# Altium integrated library logic.IntLib: 67 symbols
Pins are listed as number, name and electrical type; pins without a type are passive.

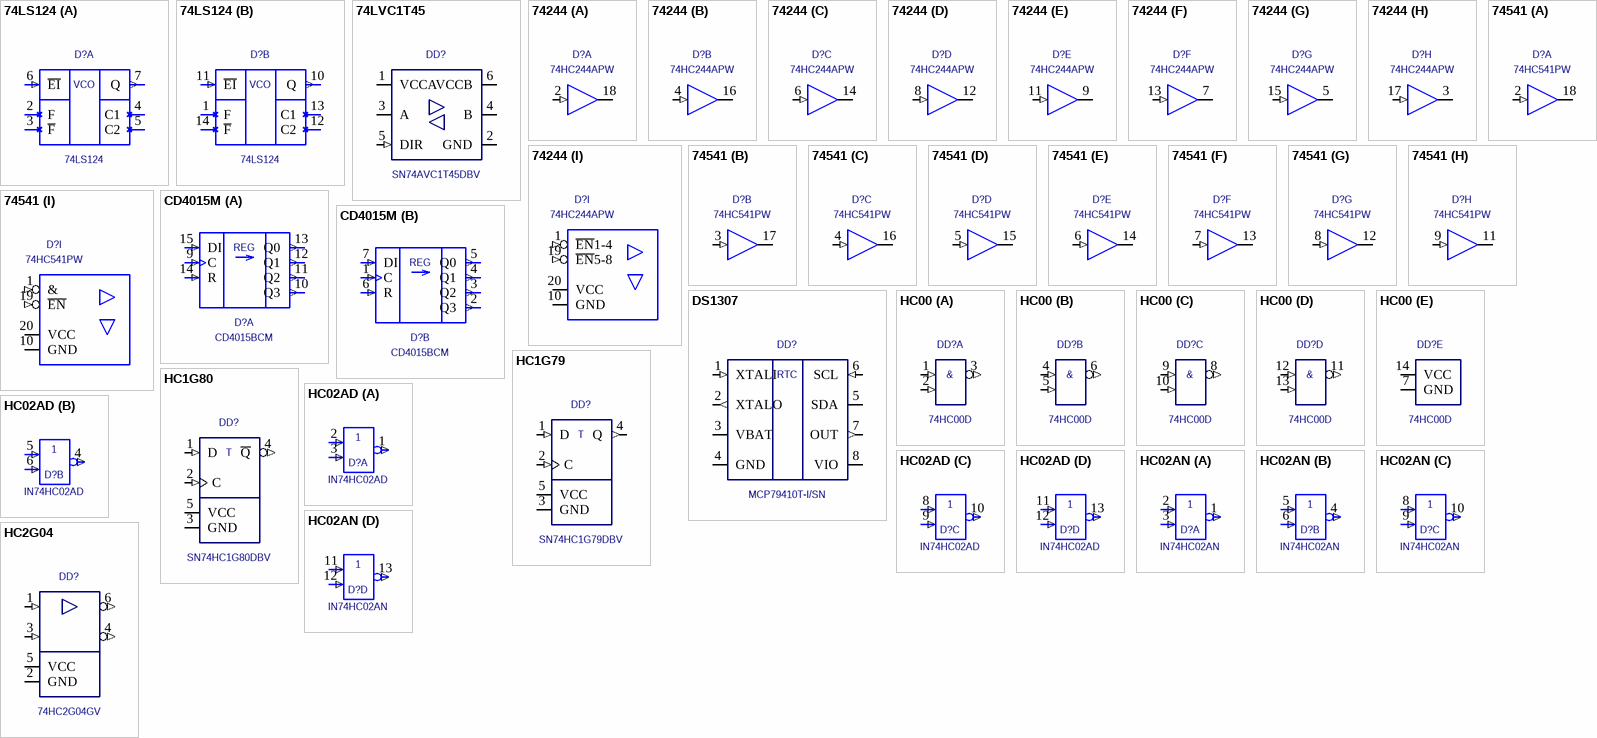
[diagram p0: symbols 74LS124 to HC2G04]

## 74LS124
designator D?
Value: 74LS124
footprint DIP16
pins on every part: 8 GND (power) hidden, 9 GND (power) hidden, 15 VCC (power) hidden, 16 VCC (power) hidden
part A pins: 2 F, 3 ~{F}, 4 C1, 5 C2, 6 ~{EI} (in), 7 Q (out)
part B pins: 1 F, 10 Q (out), 11 ~{EI} (in), 12 C2, 13 C1, 14 ~{F}
part A text: VCO
part B text: VCO

## 74LVC1T45
designator DD?, comment SN74AVC1T45DBV
1x Level shifter (bidir); Value: SN74AVC1T45DBV
footprint SOT-23-6
footprint SC-70-6
pins: 1 VCCA (power), 2 GND (power), 3 A (io), 4 B (io), 5 DIR (in) "1:A>B  0:A<B", 6 VCCB (power)

## 74244
designator D?, comment 74HC244APW
8 Z-buffers; Value: 74HC244APW
footprint DIP20
footprint SO20W
footprint TSSOP20
part A pins: 2 IN (in), 18 OUT (hiz)
part B pins: 4 IN (in), 16 OUT (hiz)
part C pins: 6 IN (in), 14 OUT (hiz)
part D pins: 8 IN (in), 12 OUT (hiz)
part E pins: 9 OUT (hiz), 11 IN (in)
part F pins: 7 OUT (hiz), 13 IN (in)
part G pins: 5 OUT (hiz), 15 IN (in)
part H pins: 3 OUT (hiz), 17 IN (in)
part I pins: 1 ~{EN}1-4 (in), 10 GND (power), 19 ~{EN}5-8 (in), 20 VCC (power)

## 74541
designator D?, comment 74HC541PW
8 Z-buffers; Value: 74HC541PW
footprint DIP20
footprint SO20W
footprint TSSOP20
part A pins: 2 IN (in), 18 OUT (hiz)
part B pins: 3 IN (in), 17 OUT (hiz)
part C pins: 4 IN (in), 16 OUT (hiz)
part D pins: 5 IN (in), 15 OUT (hiz)
part E pins: 6 IN (in), 14 OUT (hiz)
part F pins: 7 IN (in), 13 OUT (hiz)
part G pins: 8 IN (in), 12 OUT (hiz)
part H pins: 9 IN (in), 11 OUT (hiz)
part I pins: 1 & (in), 10 GND (power), 19 ~{EN} (in), 20 VCC (power)

## CD4015M
designator D?  value CD4015BCM  (hidden comment: CD4015M)
footprint SO16
pins on every part: 8 GND (power) hidden, 16 VCC (power) hidden
part A pins: 9 C (in), 10 Q3 (out), 11 Q2 (out), 12 Q1 (out), 13 Q0 (out), 14 R (in), 15 DI (in)
part B pins: 1 C (in), 2 Q3 (out), 3 Q2 (out), 4 Q1 (out), 5 Q0 (out), 6 R (in), 7 DI (in)
part A text: REG
part B text: REG

## DS1307
designator DD?, comment MCP79410T-I/SN
RTC; Value: MCP79410T-I/SN
footprint SO8
footprint DIP8
footprint TSSOP8-4MM (0.65mm pitch)
pins: 1 XTALI (in), 2 XTALO (out), 3 VBAT (power), 4 GND (power), 5 SDA (io), 6 SCL (in), 7 OUT (out), 8 VIO (power)

## HC00
designator DD?, comment 74HC00D
4xNAND; Value: 74HC00D
footprint SO14
footprint TSSOP14
footprint DIP14
part A pins: 1 INA (in), 2 INB (in), 3 OUTY (out)
part B pins: 4 INA (in), 5 INB (in), 6 OUTY (out)
part C pins: 8 OUTY (out), 9 INA (in), 10 INB (in)
part D pins: 11 OUTY (out), 12 INA (in), 13 INB (in)
part E pins: 7 GND (power), 14 VCC (power)
part A text: &
part B text: &
part C text: &
part D text: &

## HC1G79
designator DD?, comment SN74HC1G79DBV
1x DFF; Value: SN74HC1G79DBV
footprint SC-70-5 (0.65mm pitch)
footprint SOT-23-5 (0.95mm pitch)
pins: 1 D (in), 2 C (in), 3 GND (power), 4 Q (out), 5 VCC (power)
text: T

## HC1G80
designator DD?, comment SN74HC1G80DBV
1x DFF; Value: SN74HC1G80DBV
footprint SC-70-5 (0.65mm pitch)
footprint SOT-23-5 (0.95mm pitch)
pins: 1 D (in), 2 C (in), 3 GND (power), 4 ~{Q} (out), 5 VCC (power)
text: T

## HC02AD
designator D?  value IN74HC02AD  (hidden comment: HC02AD)
footprint SO14
pins on every part: 7 GND (power) hidden, 14 VCC (power) hidden
part A pins: 1 OUTY (out), 2 INA (in), 3 INB (in)
part B pins: 4 OUTY (out), 5 INA (in), 6 INB (in)
part C pins: 8 INA (in), 9 INB (in), 10 OUTY (out)
part D pins: 11 INA (in), 12 INB (in), 13 OUTY (out)

## HC02AN
designator D?  value IN74HC02AN  (hidden comment: HC02AN)
footprint DIP14
pins on every part: 7 GND (power) hidden, 14 VCC (power) hidden
part A pins: 1 OUTY (out), 2 INA (in), 3 INB (in)
part B pins: 4 OUTY (out), 5 INA (in), 6 INB (in)
part C pins: 8 INA (in), 9 INB (in), 10 OUTY (out)
part D pins: 11 INA (in), 12 INB (in), 13 OUTY (out)

## HC2G04
designator DD?, comment 74HC2G04GV
2x invertor; Value: 74HC2G04GV
footprint SOT-23-6 (0.95mm pitch)
footprint SC-70-6 (0.65mm pitch)
pins: 1 D1 (in), 2 GND (power), 3 D2 (in), 4 Q2 (out), 5 VCC (power), 6 Q1 (out)

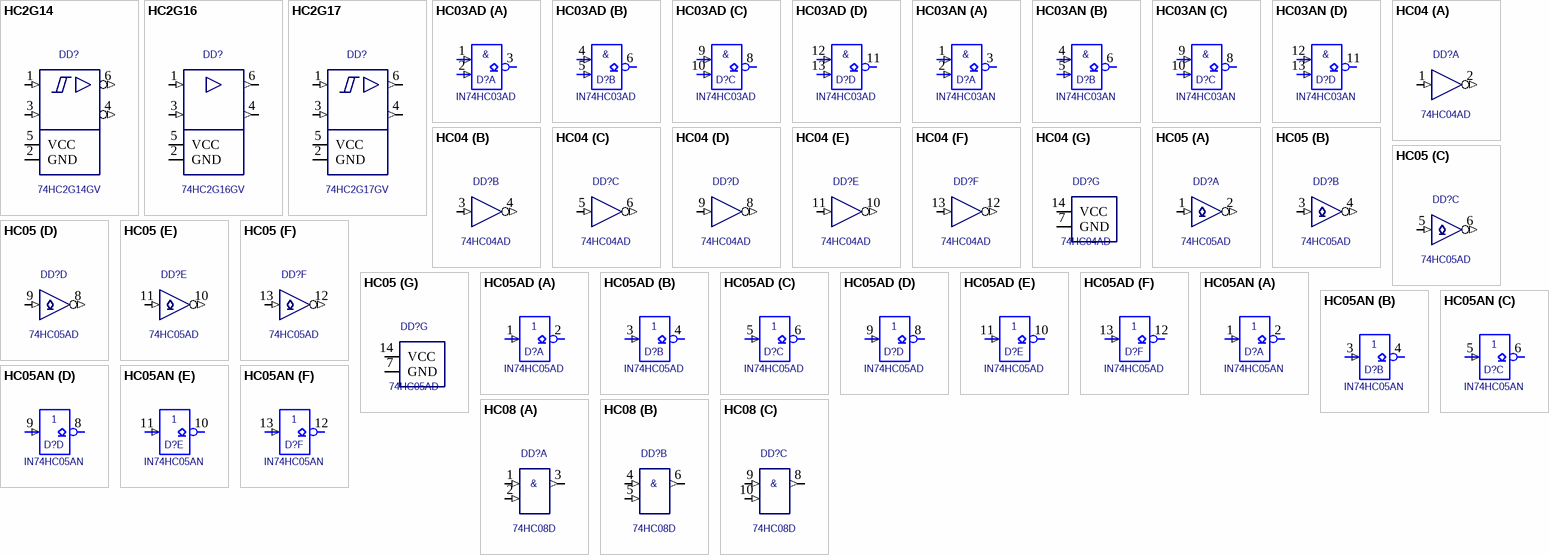
[diagram p1: symbols HC2G14 to HC08]

## HC2G14
designator DD?, comment 74HC2G14GV
2x Shmitt invertor; Value: 74HC2G14GV
footprint SOT-23-6 (0.95mm pitch)
footprint SC-70-6 (0.65mm pitch)
pins: 1 D1 (in), 2 GND (power), 3 D2 (in), 4 Q2 (out), 5 VCC (power), 6 Q1 (out)

## HC2G16
designator DD?, comment 74HC2G16GV
2x buffer; Value: 74HC2G16GV
footprint SOT-23-6 (0.95mm pitch)
footprint SC-70-6 (0.65mm pitch)
pins: 1 D1 (in), 2 GND (power), 3 D2 (in), 4 Q2 (out), 5 VCC (power), 6 Q1 (out)

## HC2G17
designator DD?, comment 74HC2G17GV
2x Shmitt buffer; Value: 74HC2G17GV
footprint SOT-23-6 (0.95mm pitch)
footprint SC-70-6 (0.65mm pitch)
pins: 1 D1 (in), 2 GND (power), 3 D2 (in), 4 Q2 (out), 5 VCC (power), 6 Q1 (out)

## HC03AD
designator D?  value IN74HC03AD  (hidden comment: HC03AD)
footprint SO14
pins on every part: 7 GND (power) hidden, 14 VCC (power) hidden
part A pins: 1 INA (in), 2 INB (in), 3 OUTY (oe)
part B pins: 4 INA (in), 5 INB (in), 6 OUTY (oe)
part C pins: 8 OUTY (oe), 9 INA (in), 10 INB (in)
part D pins: 11 OUTY (oe), 12 INA (in), 13 INB (in)
part A text: &
part B text: &
part C text: &
part D text: &

## HC03AN
designator D?  value IN74HC03AN  (hidden comment: HC03AN)
footprint DIP14
pins on every part: 7 GND (power) hidden, 14 VCC (power) hidden
part A pins: 1 INA (in), 2 INB (in), 3 OUTY (oe)
part B pins: 4 INA (in), 5 INB (in), 6 OUTY (oe)
part C pins: 8 OUTY (oe), 9 INA (in), 10 INB (in)
part D pins: 11 OUTY (oe), 12 INA (in), 13 INB (in)
part A text: &
part B text: &
part C text: &
part D text: &

## HC04
designator DD?, comment 74HC04AD
6xInvertor; Value: 74HC04AD
footprint SO14
footprint TSSOP14
footprint DIP14
part A pins: 1 IN (in), 2 OUT (out)
part B pins: 3 IN (in), 4 OUT (out)
part C pins: 5 IN (in), 6 OUT (out)
part D pins: 8 OUT (out), 9 IN (in)
part E pins: 10 OUT (out), 11 IN (in)
part F pins: 12 OUT (out), 13 IN (in)
part G pins: 7 GND (power), 14 VCC (power)

## HC05
designator DD?, comment 74HC05AD
6xInvertor OD; Value: 74HC05AD
footprint SO14
footprint TSSOP14
footprint DIP14
part A pins: 1 IN (in), 2 OUT (out)
part B pins: 3 IN (in), 4 OUT (out)
part C pins: 5 IN (in), 6 OUT (out)
part D pins: 8 OUT (out), 9 IN (in)
part E pins: 10 OUT (out), 11 IN (in)
part F pins: 12 OUT (out), 13 IN (in)
part G pins: 7 GND (power), 14 VCC (power)

## HC05AD
designator D?  value IN74HC05AD  (hidden comment: HC05AD)
footprint SO14
pins on every part: 7 GND (power) hidden, 14 VCC (power) hidden
part A pins: 1 IN (in), 2 OUT (oe)
part B pins: 3 IN (in), 4 OUT (oe)
part C pins: 5 IN (in), 6 OUT (oe)
part D pins: 8 OUT (oe), 9 IN (in)
part E pins: 10 OUT (oe), 11 IN (in)
part F pins: 12 OUT (oe), 13 IN (in)

## HC05AN
designator D?  value IN74HC05AN  (hidden comment: HC05AN)
footprint DIP14
pins on every part: 7 GND (power) hidden, 14 VCC (power) hidden
part A pins: 1 IN (in), 2 OUT (oe)
part B pins: 3 IN (in), 4 OUT (oe)
part C pins: 5 IN (in), 6 OUT (oe)
part D pins: 8 OUT (oe), 9 IN (in)
part E pins: 10 OUT (oe), 11 IN (in)
part F pins: 12 OUT (oe), 13 IN (in)

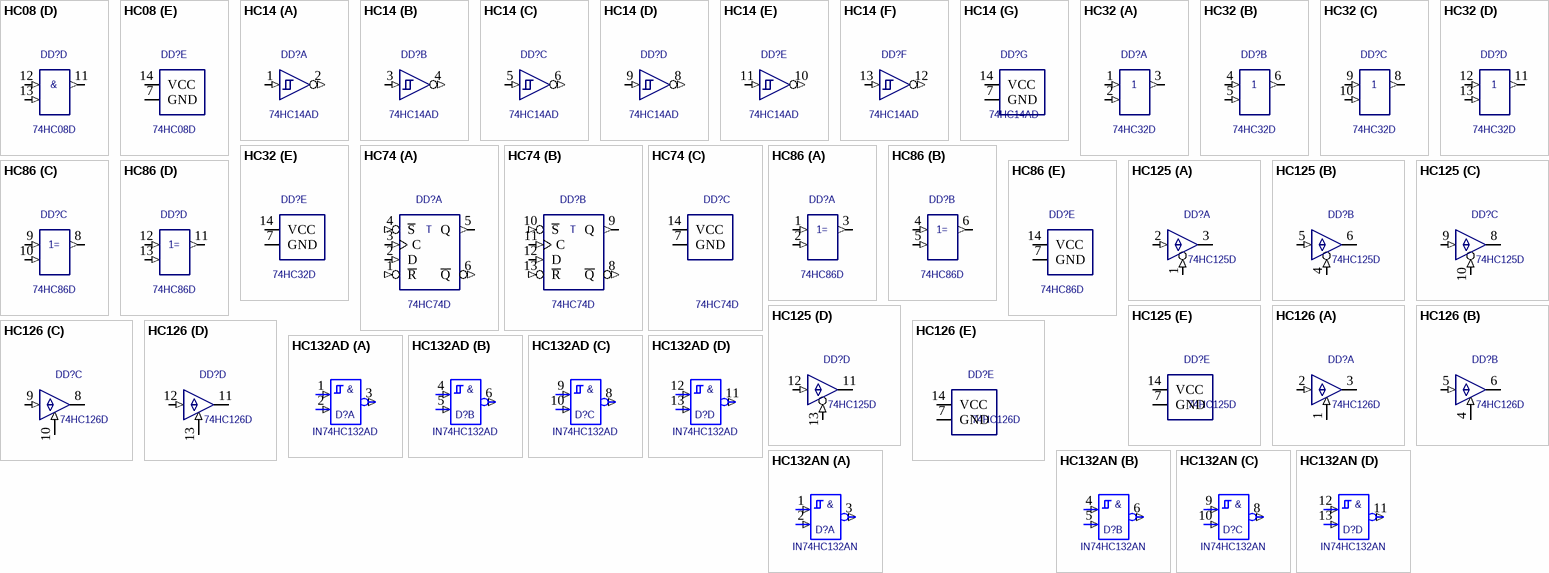
[diagram p2: symbols HC08 to HC132AN]

## HC08
designator DD?, comment 74HC08D
4xAND; Value: 74HC08D
footprint SO14
footprint TSSOP14
footprint DIP14
part A pins: 1 INA (in), 2 INB (in), 3 OUTY (out)
part B pins: 4 INA (in), 5 INB (in), 6 OUTY (out)
part C pins: 8 OUTY (out), 9 INA (in), 10 INB (in)
part D pins: 11 OUTY (out), 12 INA (in), 13 INB (in)
part E pins: 7 GND (power), 14 VCC (power)
part A text: &
part B text: &
part C text: &
part D text: &

## HC14
designator DD?, comment 74HC14AD
6x Shmitt Invertor; Value: 74HC14AD
footprint SO14
footprint TSSOP14
footprint DIP14
part A pins: 1 IN (in), 2 OUT (out)
part B pins: 3 IN (in), 4 OUT (out)
part C pins: 5 IN (in), 6 OUT (out)
part D pins: 8 OUT (out), 9 IN (in)
part E pins: 10 OUT (out), 11 IN (in)
part F pins: 12 OUT (out), 13 IN (in)
part G pins: 7 GND (power), 14 VCC (power)

## HC32
designator DD?, comment 74HC32D
4xOR; Value: 74HC32D
footprint SO14
footprint TSSOP14
footprint DIP14
part A pins: 1 INA (in), 2 INB (in), 3 OUTY (out)
part B pins: 4 INA (in), 5 INB (in), 6 OUTY (out)
part C pins: 8 OUTY (out), 9 INA (in), 10 INB (in)
part D pins: 11 OUTY (out), 12 INA (in), 13 INB (in)
part E pins: 7 GND (power), 14 VCC (power)

## HC74
designator DD?, comment 74HC74D
2xDFF; Value: 74HC74D
footprint SO14
footprint TSSOP14
footprint DIP14
part A pins: 1 ~{R} (in), 2 D (in), 3 C (in), 4 ~{S} (in), 5 Q (out), 6 ~{Q} (out)
part B pins: 8 ~{Q} (out), 9 Q (out), 10 ~{S} (in), 11 C (in), 12 D (in), 13 ~{R} (in)
part C pins: 7 GND (power), 14 VCC (power)
part A text: T
part B text: T

## HC86
designator DD?, comment 74HC86D
4xXOR; Value: 74HC86D
footprint SO14
footprint TSSOP14
footprint DIP14
part A pins: 1 INA (in), 2 INB (in), 3 OUTY (out)
part B pins: 4 INA (in), 5 INB (in), 6 OUTY (out)
part C pins: 8 OUTY (out), 9 INA (in), 10 INB (in)
part D pins: 11 OUTY (out), 12 INA (in), 13 INB (in)
part E pins: 7 GND (power), 14 VCC (power)
part A text: 1=
part B text: 1=
part C text: 1=
part D text: 1=

## HC125
designator DD?, comment 74HC125D
4xZ-Buffer; Value: 74HC125D
footprint SO14
footprint TSSOP14
footprint DIP14
part A pins: 1 OE (in), 2 IN (in), 3 OUT (hiz)
part B pins: 4 OE (in), 5 IN (in), 6 OUT (hiz)
part C pins: 8 OUT (hiz), 9 IN (in), 10 OE (in)
part D pins: 11 OUT (hiz), 12 IN (in), 13 OE (in)
part E pins: 7 GND (power), 14 VCC (power)

## HC126
designator DD?, comment 74HC126D
4xZ-Buffer; Value: 74HC126D
footprint SO14
footprint TSSOP14
footprint DIP14
part A pins: 1 OE (in), 2 IN (in), 3 OUT (hiz)
part B pins: 4 OE (in), 5 IN (in), 6 OUT (hiz)
part C pins: 8 OUT (hiz), 9 IN (in), 10 OE (in)
part D pins: 11 OUT (hiz), 12 IN (in), 13 OE (in)
part E pins: 7 GND (power), 14 VCC (power)

## HC132AD
designator D?  value IN74HC132AD  (hidden comment: HC132AD)
footprint SO14
pins on every part: 7 GND (power) hidden, 14 VCC (power) hidden
part A pins: 1 INA (in), 2 INB (in), 3 OUTY (out)
part B pins: 4 INA (in), 5 INB (in), 6 OUTY (out)
part C pins: 8 OUTY (out), 9 INA (in), 10 INB (in)
part D pins: 11 OUTY (out), 12 INA (in), 13 INB (in)
part A text: &
part B text: &
part C text: &
part D text: &

## HC132AN
designator D?  value IN74HC132AN  (hidden comment: HC132AN)
footprint DIP14
pins on every part: 7 GND (power) hidden, 14 VCC (power) hidden
part A pins: 1 INA (in), 2 INB (in), 3 OUTY (out)
part B pins: 4 INA (in), 5 INB (in), 6 OUTY (out)
part C pins: 8 OUTY (out), 9 INA (in), 10 INB (in)
part D pins: 11 OUTY (out), 12 INA (in), 13 INB (in)
part A text: &
part B text: &
part C text: &
part D text: &

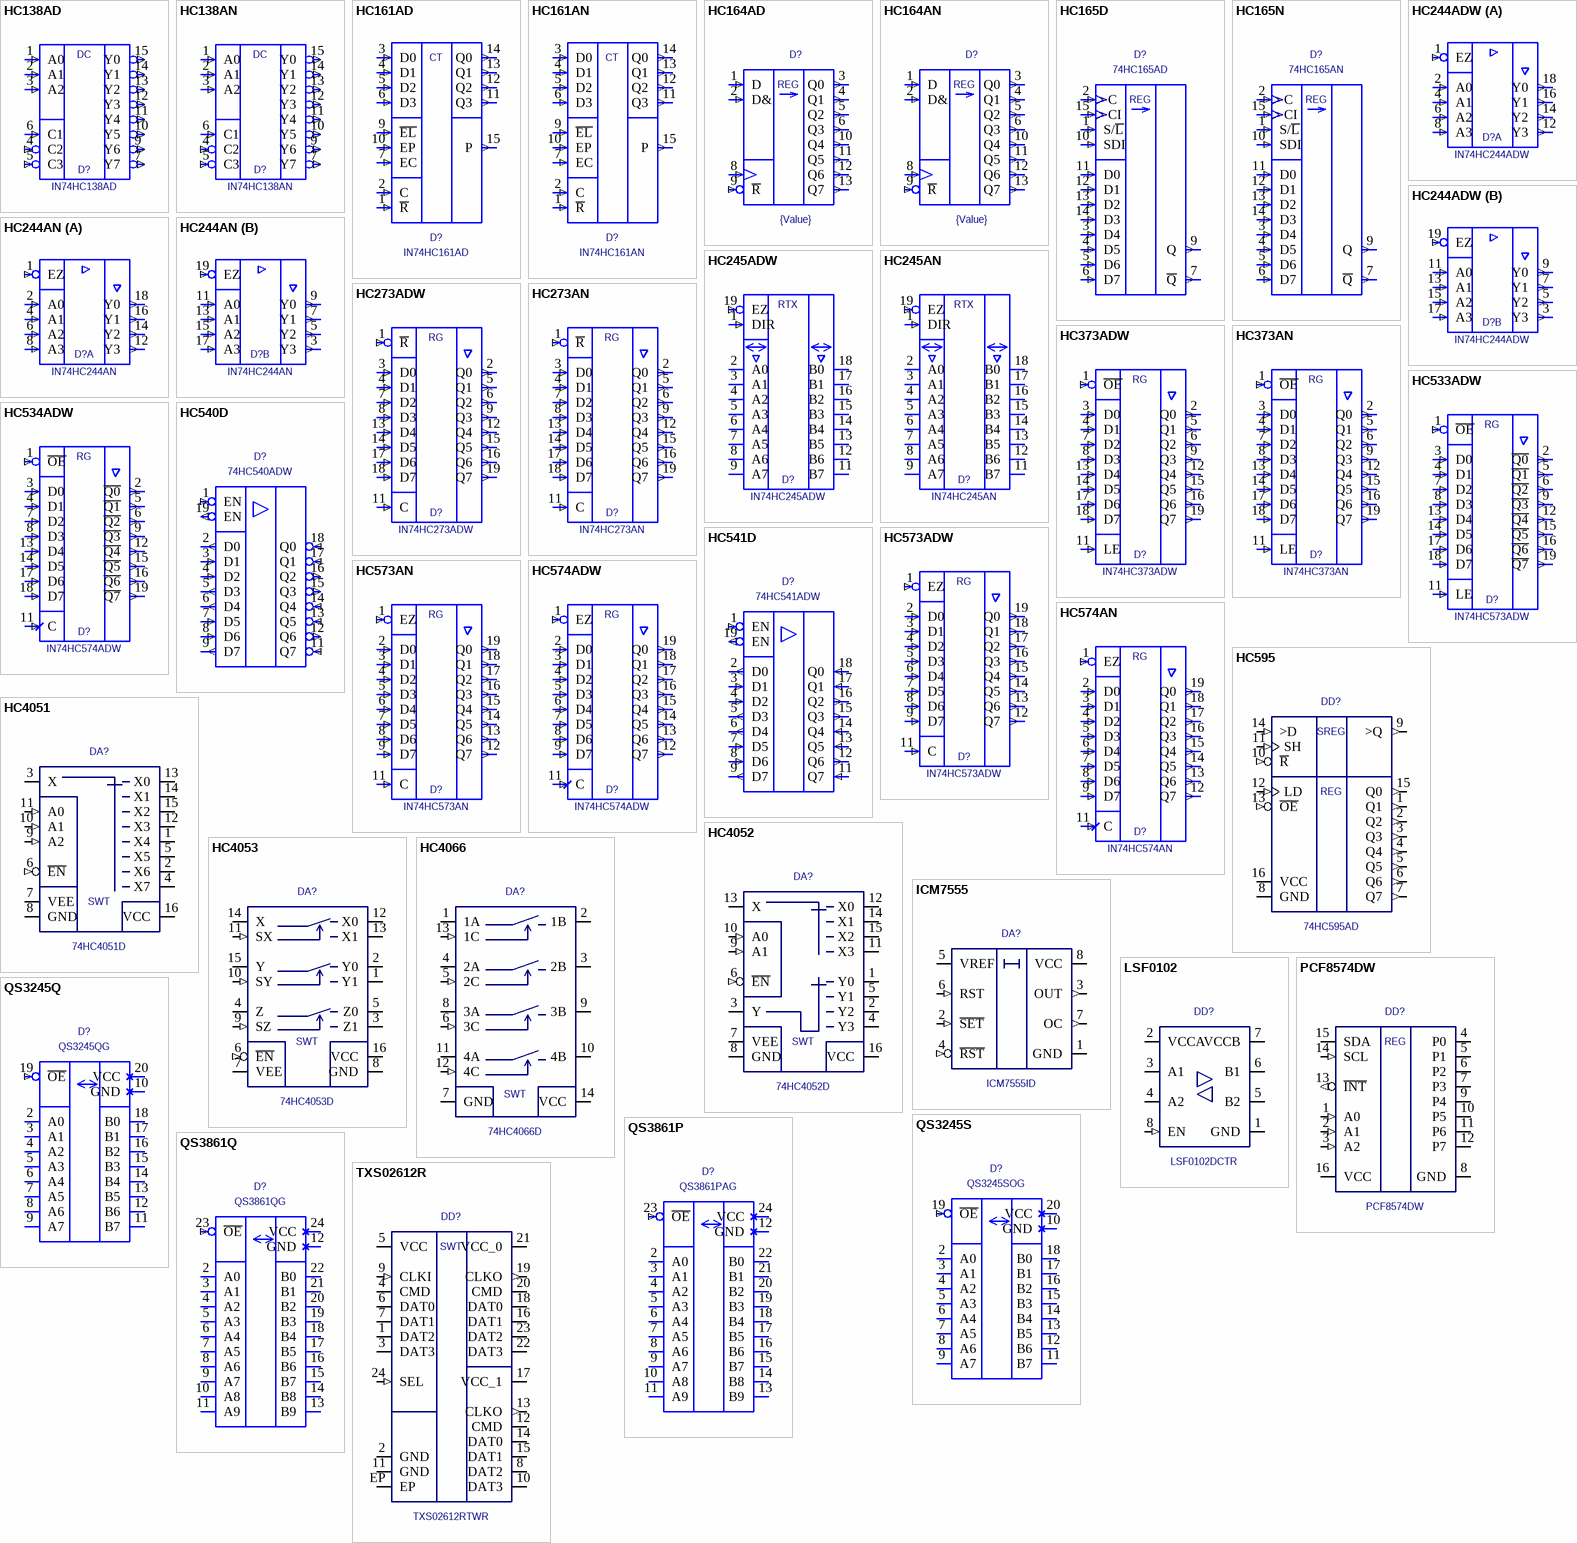
[diagram p3: symbols HC138AD to TXS02612R]

## HC138AD
designator D?  value IN74HC138AD  (hidden comment: HC138AD)
footprint SO16
pins: 1 A0 (in), 2 A1 (in), 3 A2 (in), 4 C2 (in), 5 C3 (in), 6 C1 (in), 7 Y7 (out), 8 GND (power) hidden, 9 Y6 (out), 10 Y5 (out), 11 Y4 (out), 12 Y3 (out), 13 Y2 (out), 14 Y1 (out), 15 Y0 (out), 16 VCC (power) hidden
text: DC

## HC138AN
designator D?  value IN74HC138AN  (hidden comment: HC138AN)
footprint DIP16
pins: 1 A0 (in), 2 A1 (in), 3 A2 (in), 4 C2 (in), 5 C3 (in), 6 C1 (in), 7 Y7 (out), 8 GND (power) hidden, 9 Y6 (out), 10 Y5 (out), 11 Y4 (out), 12 Y3 (out), 13 Y2 (out), 14 Y1 (out), 15 Y0 (out), 16 VCC (power) hidden
text: DC

## HC161AD
designator D?  value IN74HC161AD  (hidden comment: *)
HC161AD
footprint SO16
pins: 1 ~{R} (in), 2 C (in), 3 D0 (in), 4 D1 (in), 5 D2 (in), 6 D3 (in), 7 EC (in), 8 GND (power) hidden, 9 ~{EL} (in), 10 EP (in), 11 Q3 (out), 12 Q2 (out), 13 Q1 (out), 14 Q0 (out), 15 P (out), 16 VCC (power) hidden
text: CT

## HC161AN
designator D?  value IN74HC161AN  (hidden comment: *)
HC161AN
footprint DIP16
pins: 1 ~{R} (in), 2 C (in), 3 D0 (in), 4 D1 (in), 5 D2 (in), 6 D3 (in), 7 EC (in), 8 GND (power) hidden, 9 ~{EL} (in), 10 EP (in), 11 Q3 (out), 12 Q2 (out), 13 Q1 (out), 14 Q0 (out), 15 P (out), 16 VCC (power) hidden
text: CT

## HC164AD
designator D?  value {Value}  (hidden comment: HC164AD)
footprint SO14
pins: 1 D (in), 2 D& (in), 3 Q0 (out), 4 Q1 (out), 5 Q2 (out), 6 Q3 (out), 7 GND (power) hidden, 8 CLK (in), 9 ~{R} (in), 10 Q4 (out), 11 Q5 (out), 12 Q6 (out), 13 Q7 (out), 14 VCC (power) hidden
text: REG

## HC164AN
designator D?  value {Value}  (hidden comment: HC164AN)
footprint DIP14
pins: 1 D (in), 2 D& (in), 3 Q0 (out), 4 Q1 (out), 5 Q2 (out), 6 Q3 (out), 7 GND (power) hidden, 8 CLK (in), 9 ~{R} (in), 10 Q4 (out), 11 Q5 (out), 12 Q6 (out), 13 Q7 (out), 14 VCC (power) hidden
text: REG

## HC165D
designator D?  value 74HC165AD  (hidden comment: HC165D)
footprint SO16
pins: 1 S/~{L} (in), 2 C (in), 3 D4 (in), 4 D5 (in), 5 D6 (in), 6 D7 (in), 7 ~{Q} (out), 8 GND (power) hidden, 9 Q (out), 10 SDI (in), 11 D0 (in), 12 D1 (in), 13 D2 (in), 14 D3 (in), 15 CI (in), 16 VCC (power) hidden
text: REG

## HC165N
designator D?  value 74HC165AN  (hidden comment: HC165N)
footprint DIP16
pins: 1 S/~{L} (in), 2 C (in), 3 D4 (in), 4 D5 (in), 5 D6 (in), 6 D7 (in), 7 ~{Q} (out), 8 GND (power) hidden, 9 Q (out), 10 SDI (in), 11 D0 (in), 12 D1 (in), 13 D2 (in), 14 D3 (in), 15 CI (in), 16 VCC (power) hidden
text: REG

## HC244ADW
designator D?  value IN74HC244ADW  (hidden comment: HC244ADW)
footprint SO20W
pins on every part: 10 GND (power) hidden, 20 VCC (power) hidden
part A pins: 1 EZ (in), 2 A0 (in), 4 A1 (in), 6 A2 (in), 8 A3 (in), 12 Y3 (out), 14 Y2 (out), 16 Y1 (out), 18 Y0 (out)
part B pins: 3 Y3 (out), 5 Y2 (out), 7 Y1 (out), 9 Y0 (out), 11 A0 (in), 13 A1 (in), 15 A2 (in), 17 A3 (in), 19 EZ (in)

## HC244AN
designator D?  value IN74HC244AN  (hidden comment: HC244AN)
footprint DIP20
pins on every part: 10 GND (power) hidden, 20 VCC (power) hidden
part A pins: 1 EZ (in), 2 A0 (in), 4 A1 (in), 6 A2 (in), 8 A3 (in), 12 Y3 (out), 14 Y2 (out), 16 Y1 (out), 18 Y0 (out)
part B pins: 3 Y3 (out), 5 Y2 (out), 7 Y1 (out), 9 Y0 (out), 11 A0 (in), 13 A1 (in), 15 A2 (in), 17 A3 (in), 19 EZ (in)

## HC245ADW
designator D?  value IN74HC245ADW  (hidden comment: HC245ADW)
footprint SO20W
pins: 1 DIR (in), 2 A0 (io), 3 A1 (io), 4 A2 (io), 5 A3 (io), 6 A4 (io), 7 A5 (io), 8 A6 (io), 9 A7 (io), 10 GND (power) hidden, 11 B7 (io), 12 B6 (io), 13 B5 (io), 14 B4 (io), 15 B3 (io), 16 B2 (io), 17 B1 (io), 18 B0 (io), 19 EZ (in), 20 VCC (power) hidden
text: RTX

## HC245AN
designator D?  value IN74HC245AN  (hidden comment: HC245AN)
footprint DIP20
pins: 1 DIR (in), 2 A0 (io), 3 A1 (io), 4 A2 (io), 5 A3 (io), 6 A4 (io), 7 A5 (io), 8 A6 (io), 9 A7 (io), 10 GND (power) hidden, 11 B7 (io), 12 B6 (io), 13 B5 (io), 14 B4 (io), 15 B3 (io), 16 B2 (io), 17 B1 (io), 18 B0 (io), 19 EZ (in), 20 VCC (power) hidden
text: RTX

## HC273ADW
designator D?  value IN74HC273ADW  (hidden comment: HC273ADW)
footprint SO20W
pins: 1 ~{R} (in), 2 Q0 (out), 3 D0 (in), 4 D1 (in), 5 Q1 (out), 6 Q2 (out), 7 D2 (in), 8 D3 (in), 9 Q3 (out), 10 GND (power) hidden, 11 C (in), 12 Q4 (out), 13 D4 (in), 14 D5 (in), 15 Q5 (out), 16 Q6 (out), 17 D6 (in), 18 D7 (in), 19 Q7 (out), 20 VCC (power) hidden
text: RG

## HC273AN
designator D?  value IN74HC273AN  (hidden comment: HC273AN)
footprint DIP20
pins: 1 ~{R} (in), 2 Q0 (out), 3 D0 (in), 4 D1 (in), 5 Q1 (out), 6 Q2 (out), 7 D2 (in), 8 D3 (in), 9 Q3 (out), 10 GND (power) hidden, 11 C (in), 12 Q4 (out), 13 D4 (in), 14 D5 (in), 15 Q5 (out), 16 Q6 (out), 17 D6 (in), 18 D7 (in), 19 Q7 (out), 20 VCC (power) hidden
text: RG

## HC373ADW
designator D?  value IN74HC373ADW  (hidden comment: HC373ADW)
footprint SO20W
pins: 1 ~{OE} (in), 2 Q0 (out), 3 D0 (in), 4 D1 (in), 5 Q1 (out), 6 Q2 (out), 7 D2 (in), 8 D3 (in), 9 Q3 (out), 10 GND (power) hidden, 11 LE (in), 12 Q4 (out), 13 D4 (in), 14 D5 (in), 15 Q5 (out), 16 Q6 (out), 17 D6 (in), 18 D7 (in), 19 Q7 (out), 20 VCC (power) hidden
text: RG

## HC373AN
designator D?  value IN74HC373AN  (hidden comment: HC373AN)
footprint DIP20
pins: 1 ~{OE} (in), 2 Q0 (out), 3 D0 (in), 4 D1 (in), 5 Q1 (out), 6 Q2 (out), 7 D2 (in), 8 D3 (in), 9 Q3 (out), 10 GND (power) hidden, 11 LE (in), 12 Q4 (out), 13 D4 (in), 14 D5 (in), 15 Q5 (out), 16 Q6 (out), 17 D6 (in), 18 D7 (in), 19 Q7 (out), 20 VCC (power) hidden
text: RG

## HC533ADW
designator D?  value IN74HC573ADW  (hidden comment: HC533ADW)
footprint SO20W
pins: 1 ~{OE} (in), 2 ~{Q0} (out), 3 D0 (in), 4 D1 (in), 5 ~{Q1} (out), 6 ~{Q2} (out), 7 D2 (in), 8 D3 (in), 9 ~{Q3} (out), 10 GND (power) hidden, 11 LE (in), 12 ~{Q4} (out), 13 D4 (in), 14 D5 (in), 15 ~{Q5} (out), 16 ~{Q6} (out), 17 D6 (in), 18 D7 (in), 19 ~{Q7} (out), 20 VCC (power) hidden
text: RG

## HC534ADW
designator D?  value IN74HC574ADW  (hidden comment: HC534ADW)
footprint SO20W
pins: 1 ~{OE} (in), 2 ~{Q0} (out), 3 D0 (in), 4 D1 (in), 5 ~{Q1} (out), 6 ~{Q2} (out), 7 D2 (in), 8 D3 (in), 9 ~{Q3} (out), 10 GND (power) hidden, 11 C (in), 12 ~{Q4} (out), 13 D4 (in), 14 D5 (in), 15 ~{Q5} (out), 16 ~{Q6} (out), 17 D6 (in), 18 D7 (in), 19 ~{Q7} (out), 20 VCC (power) hidden
text: RG

## HC540D
designator D?  value 74HC540ADW  (hidden comment: HC540D)
footprint SO20W
pins: 1 EN (in), 2 D0 (out), 3 D1 (in), 4 D2 (in), 5 D3 (out), 6 D4 (out), 7 D5 (in), 8 D6 (in), 9 D7 (out), 10 GND (power) hidden, 11 Q7 (in), 12 Q6 (out), 13 Q5 (in), 14 Q4 (in), 15 Q3 (out), 16 Q2 (out), 17 Q1 (in), 18 Q0 (in), 19 EN (out), 20 VCC (power) hidden

## HC541D
designator D?  value 74HC541ADW  (hidden comment: HC541D)
footprint SO20W
pins: 1 EN (in), 2 D0 (out), 3 D1 (in), 4 D2 (in), 5 D3 (out), 6 D4 (out), 7 D5 (in), 8 D6 (in), 9 D7 (out), 10 GND (power) hidden, 11 Q7 (in), 12 Q6 (out), 13 Q5 (in), 14 Q4 (in), 15 Q3 (out), 16 Q2 (out), 17 Q1 (in), 18 Q0 (in), 19 EN (out), 20 VCC (power) hidden

## HC573ADW
designator D?  value IN74HC573ADW  (hidden comment: HC573ADW)
footprint SO20W
pins: 1 EZ (in), 2 D0 (in), 3 D1 (in), 4 D2 (in), 5 D3 (in), 6 D4 (in), 7 D5 (in), 8 D6 (in), 9 D7 (in), 10 GND (power) hidden, 11 C (in), 12 Q7 (out), 13 Q6 (out), 14 Q5 (out), 15 Q4 (out), 16 Q3 (out), 17 Q2 (out), 18 Q1 (out), 19 Q0 (out), 20 VCC (power) hidden
text: RG

## HC573AN
designator D?  value IN74HC573AN  (hidden comment: HC573AN)
footprint DIP20
pins: 1 EZ (in), 2 D0 (in), 3 D1 (in), 4 D2 (in), 5 D3 (in), 6 D4 (in), 7 D5 (in), 8 D6 (in), 9 D7 (in), 10 GND (power) hidden, 11 C (in), 12 Q7 (out), 13 Q6 (out), 14 Q5 (out), 15 Q4 (out), 16 Q3 (out), 17 Q2 (out), 18 Q1 (out), 19 Q0 (out), 20 VCC (power) hidden
text: RG

## HC574ADW
designator D?  value IN74HC574ADW  (hidden comment: HC574ADW)
footprint SO20W
pins: 1 EZ (in), 2 D0 (in), 3 D1 (in), 4 D2 (in), 5 D3 (in), 6 D4 (in), 7 D5 (in), 8 D6 (in), 9 D7 (in), 10 GND (power) hidden, 11 C (in), 12 Q7 (out), 13 Q6 (out), 14 Q5 (out), 15 Q4 (out), 16 Q3 (out), 17 Q2 (out), 18 Q1 (out), 19 Q0 (out), 20 VCC (power) hidden
text: RG

## HC574AN
designator D?  value IN74HC574AN  (hidden comment: HC574AN)
footprint DIP20
pins: 1 EZ (in), 2 D0 (in), 3 D1 (in), 4 D2 (in), 5 D3 (in), 6 D4 (in), 7 D5 (in), 8 D6 (in), 9 D7 (in), 10 GND (power) hidden, 11 C (in), 12 Q7 (out), 13 Q6 (out), 14 Q5 (out), 15 Q4 (out), 16 Q3 (out), 17 Q2 (out), 18 Q1 (out), 19 Q0 (out), 20 VCC (power) hidden
text: RG

## HC595
designator DD?, comment 74HC595AD
SREG/REG 8bit; Value: 74HC595AD
footprint SO16
footprint DIP16
footprint TSSOP16
pins: 1 Q1 (out), 2 Q2 (out), 3 Q3 (out), 4 Q4 (out), 5 Q5 (out), 6 Q6 (out), 7 Q7 (out), 8 GND (power), 9 >Q (out), 10 ~{R} (in), 11 SH (in), 12 LD (in), 13 ~{OE} (in), 14 >D (in), 15 Q0 (out), 16 VCC (power)
text: SREG; REG

## HC4051
designator DA?, comment 74HC4051D
1to8 analog mux; Value: 74HC4051D
footprint SO16
footprint TSSOP16
footprint DIP16
pins: 1 X4, 2 X6, 3 X, 4 X7, 5 X5, 6 ~{EN} (in), 7 VEE (power), 8 GND (power), 9 A2 (in), 10 A1 (in), 11 A0 (in), 12 X3, 13 X0, 14 X1, 15 X2, 16 VCC (power)
text: SWT

## HC4052
designator DA?, comment 74HC4052D
2x(2to4) analog mux; Value: 74HC4052D
footprint SO16
footprint TSSOP16
footprint DIP16
pins: 1 Y0, 2 Y2, 3 Y, 4 Y3, 5 Y1, 6 ~{EN} (in), 7 VEE (power), 8 GND (power), 9 A1 (in), 10 A0 (in), 11 X3, 12 X0, 13 X, 14 X1, 15 X2, 16 VCC (power)
text: SWT

## HC4053
designator DA?, comment 74HC4053D
3x(1to2) analog mux; Value: 74HC4053D
footprint SO16
footprint TSSOP16
footprint DIP16
pins: 1 Y1, 2 Y0, 3 Z1, 4 Z, 5 Z0, 6 ~{EN} (in), 7 VEE (power), 8 GND (power), 9 SZ (in), 10 SY (in), 11 SX (in), 12 X0, 13 X1, 14 X, 15 Y, 16 VCC (power)
text: SWT

## HC4066
designator DA?, comment 74HC4066D
4x analog switch; Value: 74HC4066D
footprint TSSOP14
footprint DIP14
footprint SO14
pins: 1 1A, 2 1B, 3 2B, 4 2A, 5 2C (in), 6 3C (in), 7 GND (power), 8 3A, 9 3B, 10 4B, 11 4A, 12 4C (in), 13 1C (in), 14 VCC (power)
text: SWT

## ICM7555
designator DA?, comment ICM7555ID
Timer 555; Value: ICM7555ID
footprint SO8
footprint DIP8
pins: 1 GND (power), 2 ~{SET} (in), 3 OUT (out), 4 ~{RST} (in), 5 VREF, 6 RST (in), 7 OC (out), 8 VCC (power)

## LSF0102
designator DD?, comment LSF0102DCTR
1x Auto bidir level shifter; Value: LSF0102DCTR
footprint MSOP8 (0.5mm pitch)
footprint TSSOP8-4MM (0.65mm pitch)
pins: 1 GND (power), 2 VCCA (power), 3 A1 (io), 4 A2 (io), 5 B2 (io), 6 B1 (io), 7 VCCB (power), 8 EN (in) "1:A>B  0:A<B"

## PCF8574DW
designator DD?
I2C I/O register; Value: PCF8574DW
footprint SO16W
footprint DIP16
pins: 1 A0 (in), 2 A1 (in), 3 A2 (in), 4 P0 (io), 5 P1 (io), 6 P2 (io), 7 P3 (io), 8 GND (power), 9 P4 (io), 10 P5 (io), 11 P6 (io), 12 P7 (io), 13 ~{INT} (out), 14 SCL (in), 15 SDA (io), 16 VCC (power)
text: REG

## QS3245Q
designator D?  value QS3245QG  (hidden comment: QS3245Q)
footprint QSOP20
pins: 1 hidden, 2 A0, 3 A1, 4 A2, 5 A3, 6 A4, 7 A5, 8 A6, 9 A7, 10 GND (power), 11 B7, 12 B6, 13 B5, 14 B4, 15 B3, 16 B2, 17 B1, 18 B0, 19 ~{OE} (in), 20 VCC (power)

## QS3245S
designator D?  value QS3245SOG  (hidden comment: QS3245S)
footprint SO20W
pins: 1 hidden, 2 A0, 3 A1, 4 A2, 5 A3, 6 A4, 7 A5, 8 A6, 9 A7, 10 GND (power), 11 B7, 12 B6, 13 B5, 14 B4, 15 B3, 16 B2, 17 B1, 18 B0, 19 ~{OE} (in), 20 VCC (power)

## QS3861P
designator D?  value QS3861PAG  (hidden comment: QS3861P)
footprint TSSOP24
pins: 1 hidden, 2 A0, 3 A1, 4 A2, 5 A3, 6 A4, 7 A5, 8 A6, 9 A7, 10 A8, 11 A9, 12 GND (power), 13 B9, 14 B8, 15 B7, 16 B6, 17 B5, 18 B4, 19 B3, 20 B2, 21 B1, 22 B0, 23 ~{OE} (in), 24 VCC (power)

## QS3861Q
designator D?  value QS3861QG  (hidden comment: QS3861Q)
footprint QSOP24
pins: 1 hidden, 2 A0, 3 A1, 4 A2, 5 A3, 6 A4, 7 A5, 8 A6, 9 A7, 10 A8, 11 A9, 12 GND (power), 13 B9, 14 B8, 15 B7, 16 B6, 17 B5, 18 B4, 19 B3, 20 B2, 21 B1, 22 B0, 23 ~{OE} (in), 24 VCC (power)

## TXS02612R
designator DD?, comment TXS02612RTWR
SDIO switch; Value: TXS02612RTWR
footprint MLF24
pins: 1 DAT2 (io), 2 GND (power), 3 DAT3 (io), 4 CMD (io), 5 VCC (power), 6 DAT0 (io), 7 DAT1 (io), 8 DAT2 (io), 9 CLKI (in), 10 DAT3 (io), 11 GND (power), 12 CMD (io), 13 CLKO (out), 14 DAT0 (io), 15 DAT1 (io), 16 DAT1 (io), 17 VCC_1 (power), 18 DAT0 (io), 19 CLKO (out), 20 CMD (io), 21 VCC_0 (power), 22 DAT3 (io), 23 DAT2 (io), 24 SEL (in), EP (power)
text: SWT